# Altium schematic symbol library Switch_EFR.SchLib: 6 symbols
Pins are listed as number, name and electrical type; pins without a type are passive.

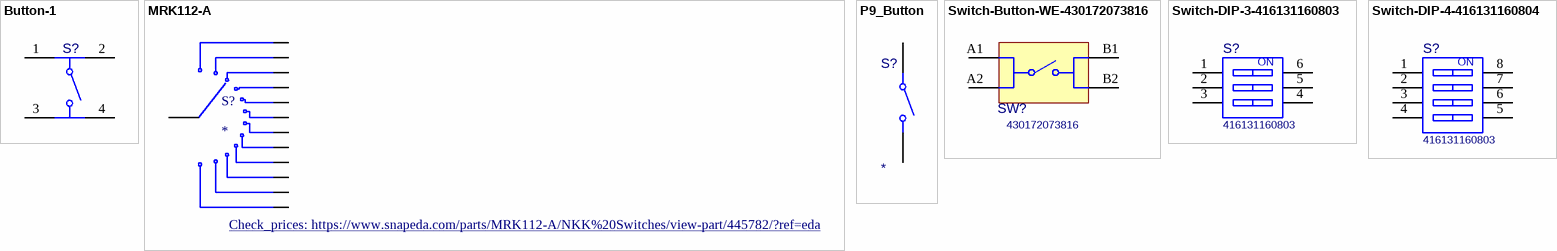
[diagram p0: symbols Button-1 to Switch-DIP-4-416131160804]

## Button-1
designator S?
Button; PartNumber: 430181038816; Manufacturer: Wurth Elektronik; Operation Force: 160gf; Rated Voltage: 12VDC; Rated Current: 50mA; Washable: No; Operating Temperature: -40 to +85degC; Published Date: September 2019; Contact Material: Stainless Steel; Height: 3.8mm; Mounting Technology: SMT; Contact Plating: Silver; Packaging: Tape and Reel; Terminal Material: Copper Alloy; Terminal Plating: Silver
footprint WE-SWT-430181038816 (Tact Switch, SMD, body 4.5x4.5mm)
pins: 1, 2, 3, 4

## MRK112-A
designator S?
Rotary Switch 2 ~ 12 Position SP12T 0.4VA (AC/DC) 28VAC Panel Mount, Through Hole; MF: NKK Switches; MP: MRK112-A; Package: None; Purchase-URL: https://pricing.snapeda.com/search/part/MRK112-A/?ref=eda; Value: *; Price: None; Availability: Warning; SnapEDA_Link: https://www.snapeda.com/parts/MRK112-A/NKK%20Switches/view-part/445782/?ref=snap; Check_prices: https://www.snapeda.com/parts/MRK112-A/NKK%20Switches/view-part/445782/?ref=eda
footprint SW_MRK112-A
pins: 1, 2, 3, 4, 5, 6, 7, 8, 9, 10, 11, 12, A

## P9_Button
designator S?
footprint P9_Button
pins: 1, 2

## Switch-Button-WE-430172073816
designator SW?, comment 430172073816
WS-TASV SMT Tact Switch, L12 x W12 x H7.3mm, 160g, SPST-NO, 12V, 50mA; Manufacturer: Wurth Elektronik; Washable: No; Manufacturer P/N: 430172073816; Category: Tact Switches; Series: WS-TASV; ComponentLink1Description: Website Link; ComponentLink1URL: https://www.we-online.com/redexpert/article/430172073816?ad; ComponentLink2Description: Datasheet Link; ComponentLink2URL: https://www.we-online.com/redexpert/spec/430172073816?ad; Mounting Technology: SMT; Operating Temperature Max: 85°C; Operating Temperature Min: -40°C; Packaging: Tape and Reel; Length (mm): 12; Width (mm): 12; Height (mm): 7.3; Circuit: SPST-NO; Contact Material: Stainless Steel; Contact Plating: Silver; Operation Force: 160g; Rated Current: 50mA; Voltage (V): 12V; Terminal Material: Copper Alloy; Terminal Plating: Silver
footprint WS-TASV_L12W12H7.3_4301x20738x6
pins: A1, A2, B1, B2

## Switch-DIP-3-416131160803
designator S?, comment 416131160803
WS-DISV Small Compact SMD Dip Switch, Flat Actuator with Top Tape, pitch 1.27mm, 3p; Manufacturer: Wurth Elektronik; Operation Force: 500g; Pole Number: 3; Actuator Type: Flat Type; Circuit: SPST-NO; Rated Current Switching: 25mA; Rated Current Non-Switching: 100mA; Rated Voltage Non-Switching: 50VDC; Rated Voltage Switching: 24VDC; ComponentLink1Description: Manufacturer; ComponentLink1URL: http://www.we-online.de; ComponentLink2Description: Datasheet; ComponentLink2URL: https://katalog.we-online.com/em/datasheet/416131160803.pdf; Pitch: 1.27mm; Contact Material: Copper Alloy; Mounting Technology: SMT; Operating Temperature: -40 to +85degC; Contact Plating: Gold; Packaging: Tape and Reel; PartNumber: 416131160803; Published Date: September 2019
footprint Switch-WE-416131160803 (SMD Dip Switch, Small Compact, Raised Actuator, 3pin)
pins: 1, 2, 3, 4, 5, 6
text: ON

## Switch-DIP-4-416131160804
designator S?, comment 416131160803
WS-DISV Small Compact SMD Dip Switch, Flat Actuator with Top Tape, pitch 1.27mm, 4p; PartNumber: 416131160804; Manufacturer: Wurth Elektronik; Operation Force: 500g; Pole Number: 4; Actuator Type: Flat Type; Circuit: SPST-NO; Rated Current Switching: 25mA; Rated Current Non-Switching: 100mA; Rated Voltage Non-Switching: 50VDC; Rated Voltage Switching: 24VDC; ComponentLink1Description: Manufacturer; ComponentLink1URL: http://www.we-online.de; ComponentLink2Description: Datasheet; ComponentLink2URL: https://katalog.we-online.com/em/datasheet/416131160804.pdf; Pitch: 1.27mm; Contact Material: Copper Alloy; Mounting Technology: SMT; Operating Temperature: -40 to +85degC; Contact Plating: Gold; Packaging: Tape and Reel; Published Date: September 2019
footprint Switch-WE-416131160804 (SMD Dip Switch, Small Compact, Raised Actuator, 4pin)
pins: 1, 2, 3, 4, 5, 6, 7, 8
text: ON